# Altium schematic symbol library Omron_switches.SchLib: 1 symbol
Pins are listed as number, name and electrical type; pins without a type are passive.

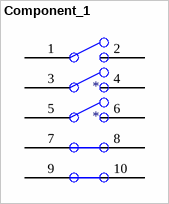
[diagram p0: symbol Component_1]

## Component_1
designator *
pins: 1 1A, 2 1B, 3 2, 4 3, 5 0, 6 1, 7 0, 8 1, 9 0, 10 1